# Altium integrated library TI Data Converters Digital to Analog Converter.IntLib: 1533 symbols (part 7 of 99)
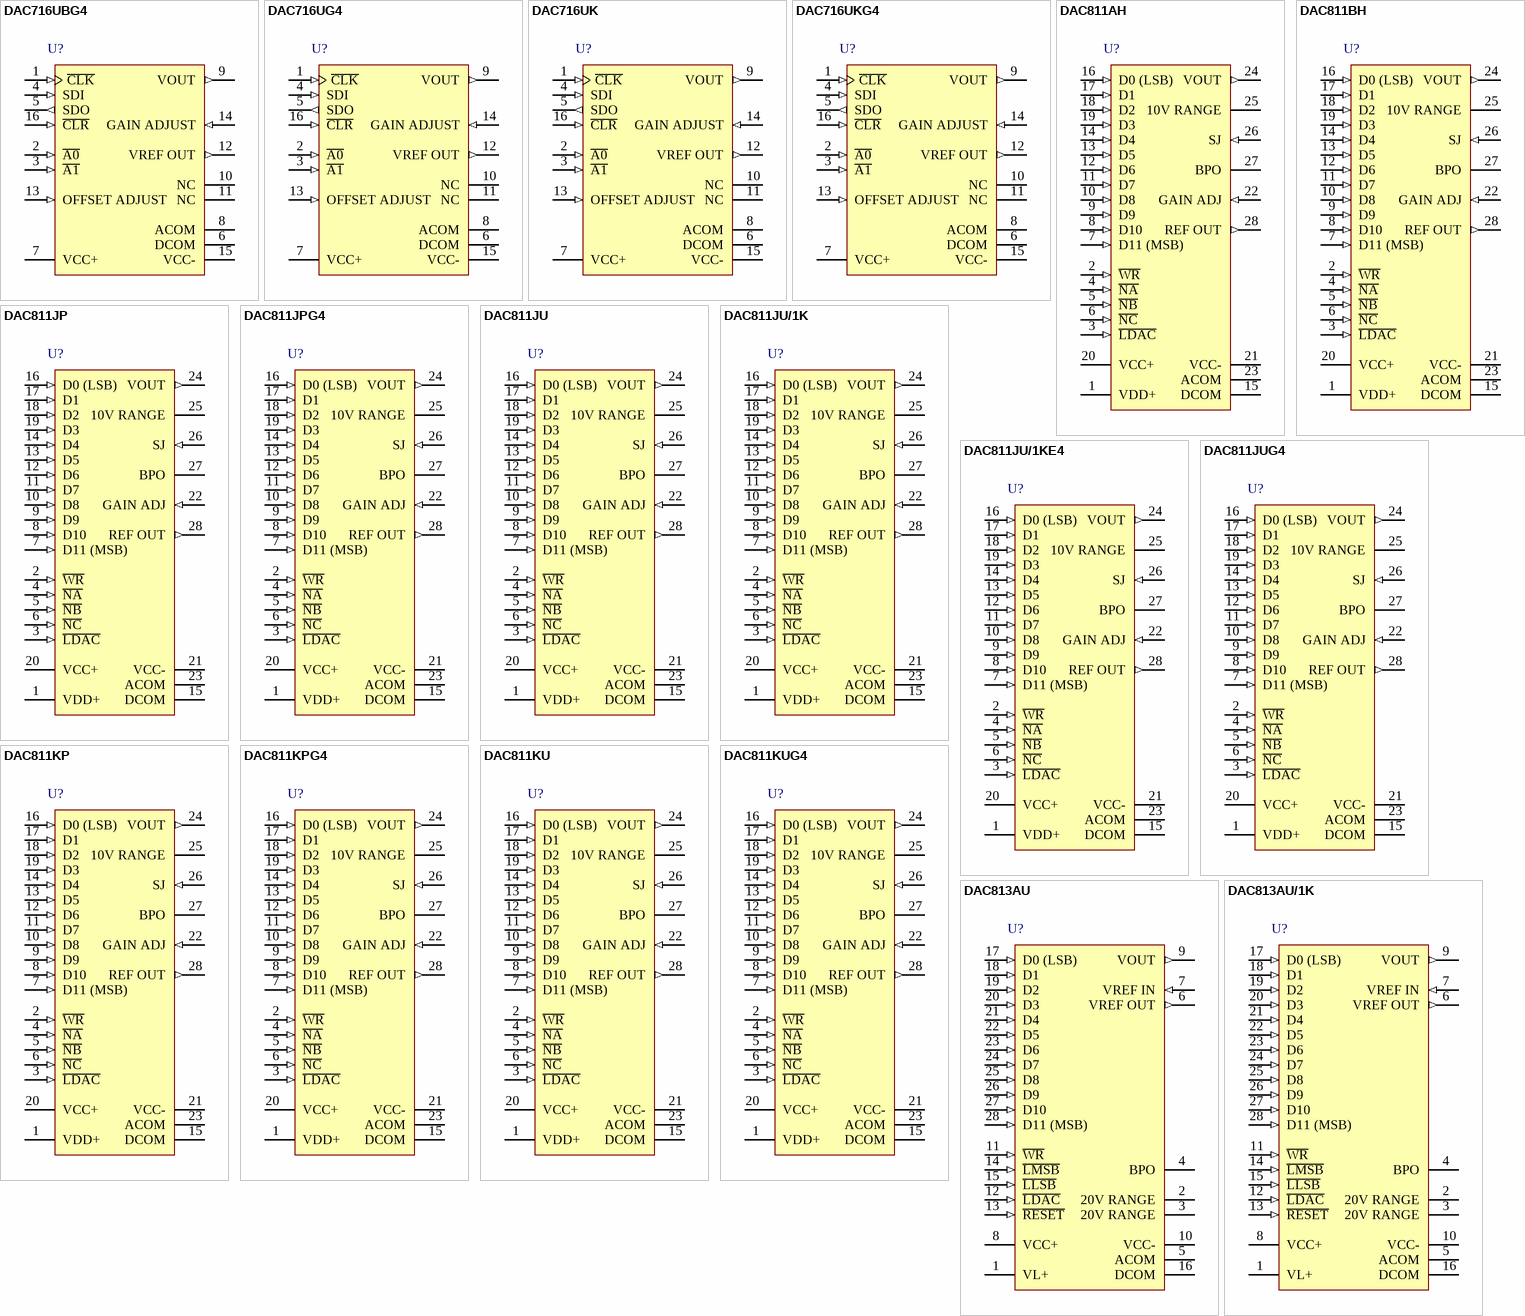
[diagram p79: symbols DAC716UBG4 to DAC813AU/1K]

## DAC716UG4
designator U?
16-Bit DAC with Serial Data Interface, -40 to 85 degC, 16-pin SOIC (DW16), Green (RoHS & no Sb/Br); Manufacturer: Texas Instruments; PartNumber: DAC716UG4; DAC Channels: 1; DNL(Max)(+/-LSB): 4; Interface: Serial SPI; Resolution(Bits): 16; Settling Time(us): 10; SubFamily: Precision DAC (=<10MSPS); DatasheetVersion: SBAS049; PackageVersion: 4040000-2/G, 01/2011; PackageReference: DW16; PackageDescription: 16-Pin Plastic Small Outline, Body 10.30 x 7.50 mm, Pitch 1.27 mm; Supplier 1: Digi-Key; Supplier Part Number 1: DAC716UG4-ND; Supplier 2: Mouser; Supplier Part Number 2: 595-DAC716UG4; Eco-Plan: Green (RoHS & no Sb/Br); INL(Max)(+/-LSB): 4; Mounting Technology: Surface Mount; Code_JEDEC: MS-013; ComponentLink1Description: Manufacturer URL; ComponentLink1URL: http://www.ti.com/; ComponentLink2Description: Datasheet; ComponentLink2URL: http://www.ti.com/general/docs/lit/getliterature.tsp?genericPartNumber=DAC716&fileType=pdf; ComponentLink3Description: Package Specification; ComponentLink3URL: http://www.ti.com/litv/pdf/msoi003g
footprint TI-DW16_N (SOIC, 16-Leads, Body 10.3x7.5mm, Pitch 1.27mm, IPC Medium Density)
footprint TI-DW16_L (SOIC, 16-Leads, Body 10.3x7.5mm, Pitch 1.27mm, IPC High Density)
footprint TI-DW16_M (SOIC, 16-Leads, Body 10.3x7.5mm, Pitch 1.27mm, IPC Low Density)
pins: 1 ~{CLK} (in) "Serial Data Clock", 2 ~{A0} (in) "Enable for Input Register (Active Low)", 3 ~{A1} (in) "Enable for D/A Latch (Active Low)", 4 SDI (in) "Serial Data Input", 5 SDO (out) "Serial Data Output", 6 DCOM (power) "Digital Supply Ground", 7 VCC+ (power) "Positive Power Supply", 8 ACOM (power) "Analog Supply Ground", 9 VOUT (out) "D/A Output", 10 NC "No Connection", 11 NC "No Connection", 12 VREF OUT (out) "Voltage Reference Output", 13 OFFSET ADJUST (in) "Offset Adjust", 14 GAIN ADJUST (in) "Gain Adjust", 15 VCC- (power) "Negative Power Supply", 16 ~{CLR} (in) "Clear"

## DAC716UK
designator U?
16-Bit DAC with Serial Data Interface, 0 to 70 degC, 16-pin SOIC (DW16), Green (RoHS & no Sb/Br); Manufacturer: Texas Instruments; PartNumber: DAC716UK; DAC Channels: 1; DNL(Max)(+/-LSB): 2; Interface: Serial SPI; Resolution(Bits): 16; Settling Time(us): 10; SubFamily: Precision DAC (=<10MSPS); DatasheetVersion: SBAS049; PackageVersion: 4040000-2/G, 01/2011; PackageReference: DW16; PackageDescription: 16-Pin Plastic Small Outline, Body 10.30 x 7.50 mm, Pitch 1.27 mm; Supplier 1: Digi-Key; Supplier Part Number 1: DAC716UK-ND; Supplier 2: Newark; Supplier Part Number 2: 74C9148; Supplier 3: Mouser; Supplier Part Number 3: 595-DAC716UK; Eco-Plan: Green (RoHS & no Sb/Br); INL(Max)(+/-LSB): 2; Mounting Technology: Surface Mount; Code_JEDEC: MS-013; ComponentLink1Description: Manufacturer URL; ComponentLink1URL: http://www.ti.com/; ComponentLink2Description: Datasheet; ComponentLink2URL: http://www.ti.com/general/docs/lit/getliterature.tsp?genericPartNumber=DAC716&fileType=pdf; ComponentLink3Description: Package Specification; ComponentLink3URL: http://www.ti.com/litv/pdf/msoi003g
footprint TI-DW16_N (SOIC, 16-Leads, Body 10.3x7.5mm, Pitch 1.27mm, IPC Medium Density)
footprint TI-DW16_L (SOIC, 16-Leads, Body 10.3x7.5mm, Pitch 1.27mm, IPC High Density)
footprint TI-DW16_M (SOIC, 16-Leads, Body 10.3x7.5mm, Pitch 1.27mm, IPC Low Density)
pins: 1 ~{CLK} (in) "Serial Data Clock", 2 ~{A0} (in) "Enable for Input Register (Active Low)", 3 ~{A1} (in) "Enable for D/A Latch (Active Low)", 4 SDI (in) "Serial Data Input", 5 SDO (out) "Serial Data Output", 6 DCOM (power) "Digital Supply Ground", 7 VCC+ (power) "Positive Power Supply", 8 ACOM (power) "Analog Supply Ground", 9 VOUT (out) "D/A Output", 10 NC "No Connection", 11 NC "No Connection", 12 VREF OUT (out) "Voltage Reference Output", 13 OFFSET ADJUST (in) "Offset Adjust", 14 GAIN ADJUST (in) "Gain Adjust", 15 VCC- (power) "Negative Power Supply", 16 ~{CLR} (in) "Clear"

## DAC716UKG4
designator U?
16-Bit DAC with Serial Data Interface, 0 to 70 degC, 16-pin SOIC (DW16), Green (RoHS & no Sb/Br); Manufacturer: Texas Instruments; PartNumber: DAC716UKG4; DAC Channels: 1; DNL(Max)(+/-LSB): 2; Interface: Serial SPI; Resolution(Bits): 16; Settling Time(us): 10; SubFamily: Precision DAC (=<10MSPS); DatasheetVersion: SBAS049; PackageVersion: 4040000-2/G, 01/2011; PackageReference: DW16; PackageDescription: 16-Pin Plastic Small Outline, Body 10.30 x 7.50 mm, Pitch 1.27 mm; Supplier 1: Digi-Key; Supplier Part Number 1: DAC716UKG4-ND; Supplier 2: Mouser; Supplier Part Number 2: 595-DAC716UKG4; Eco-Plan: Green (RoHS & no Sb/Br); INL(Max)(+/-LSB): 2; Mounting Technology: Surface Mount; Code_JEDEC: MS-013; ComponentLink1Description: Manufacturer URL; ComponentLink1URL: http://www.ti.com/; ComponentLink2Description: Datasheet; ComponentLink2URL: http://www.ti.com/general/docs/lit/getliterature.tsp?genericPartNumber=DAC716&fileType=pdf; ComponentLink3Description: Package Specification; ComponentLink3URL: http://www.ti.com/litv/pdf/msoi003g
footprint TI-DW16_N (SOIC, 16-Leads, Body 10.3x7.5mm, Pitch 1.27mm, IPC Medium Density)
footprint TI-DW16_L (SOIC, 16-Leads, Body 10.3x7.5mm, Pitch 1.27mm, IPC High Density)
footprint TI-DW16_M (SOIC, 16-Leads, Body 10.3x7.5mm, Pitch 1.27mm, IPC Low Density)
pins: 1 ~{CLK} (in) "Serial Data Clock", 2 ~{A0} (in) "Enable for Input Register (Active Low)", 3 ~{A1} (in) "Enable for D/A Latch (Active Low)", 4 SDI (in) "Serial Data Input", 5 SDO (out) "Serial Data Output", 6 DCOM (power) "Digital Supply Ground", 7 VCC+ (power) "Positive Power Supply", 8 ACOM (power) "Analog Supply Ground", 9 VOUT (out) "D/A Output", 10 NC "No Connection", 11 NC "No Connection", 12 VREF OUT (out) "Voltage Reference Output", 13 OFFSET ADJUST (in) "Offset Adjust", 14 GAIN ADJUST (in) "Gain Adjust", 15 VCC- (power) "Negative Power Supply", 16 ~{CLR} (in) "Clear"

## DAC811AH
designator U?
12-Bit DAC with Parallel Interface, -25 to 85 degC, 28-pin DIP (JD28), Green (RoHS & no Sb/Br); Manufacturer: Texas Instruments; PartNumber: DAC811AH; DAC Channels: 1; DNL(Max)(+/-LSB): 0.75; INL(Max)(+/-LSB): 0.5; Power Consumption(Typ)(mW): 625; Resolution(Bits): 12; Settling Time(us): 4; SubFamily: Precision DAC (=<10MSPS); DatasheetVersion: SBAS144; PackageVersion: 4040088/C, 05/1997; PackageReference: JD28; PackageDescription: 28-Pin Ceramic Side-Braze Dual-In-Line Package, Body 35.94 x 10.095 mm, Pitch 2.54 mm; Supplier 1: Digi-Key; Supplier Part Number 1: DAC811AH-ND; Supplier 2: Farnell; Supplier Part Number 2: 1564877; Supplier 3: Newark; Supplier Part Number 3: 72K7277; Supplier 4: Mouser; Supplier Part Number 4: 595-DAC811AH; Eco-Plan: Green (RoHS & no Sb/Br); Interface: Parallel; Mounting Technology: Through Hole; ComponentLink1Description: Manufacturer URL; ComponentLink1URL: http://www.ti.com/; ComponentLink2Description: Datasheet; ComponentLink2URL: http://www.ti.com/general/docs/lit/getliterature.tsp?genericPartNumber=DAC811&fileType=pdf; ComponentLink3Description: Package Specification; ComponentLink3URL: http://www.ti.com/lit/ml/mcdi003a/mcdi003a.pdf
footprint TI-JD28 (DIP, 28-Leads, Body 35.94x10.095mm, Pitch 2.54mm)
pins: 1 VDD+ (power) "Logic supply, +5V.", 2 ~{WR} (in) "Write, command signal to load latches. Logic low loads latches.", 3 ~{LDAC} (in) "Load D/A converter, enables W\R\ to load the D/A latch. Logic low enables.", 4 ~{NA} (in) "Nibble A, enables W\R\ to load input latch A (the most significant nibble). Logic low enables.", 5 ~{NB} (in) "Nibble B, enables W\R\ to load input latch B. Logic low enables.", 6 ~{NC} (in) "Nibble C, enables W\R\ to load input latch C (the least significant nibble). Logic low enables.", 7 D11 (MSB) (in) "Data bit 12, MSB, positive true.", 8 D10 (in) "Data bit 11.", 9 D9 (in) "Data bit 10.", 10 D8 (in) "Data bit 9.", 11 D7 (in) "Data bit 8.", 12 D6 (in) "Data bit 7.", 13 D5 (in) "Data bit 6.", 14 D4 (in) "Data bit 5.", 15 DCOM (power) "Digital common, VDD supply return.", 16 D0 (LSB) (in) "Data bit 1, LSB.", 17 D1 (in) "Data bit 2.", 18 D2 (in) "Data bit 3.", 19 D3 (in) "Data bit 4.", 20 VCC+ (power) "Analog supply input, +15V or +12V.", 21 VCC- (power) "Analog supply input, -15V or -12V.", 22 GAIN ADJ (in) "To externally adjust gain.", 23 ACOM (power) "Analog common, +/-VCC supply return.", 24 VOUT (out) "D/A converter voltage output.", 25 10V RANGE (power) "Connect to pin 24 for 10V range.", 26 SJ (in) "Summing junction of output amplifier.", 27 BPO "Bipolar offset. Connect to pin 26 for bipolar operation.", 28 REF OUT (out) "6.3V reference output."

## DAC811BH
designator U?
12-Bit DAC with Parallel Interface, -25 to 85 degC, 28-pin DIP (JD28), Green (RoHS & no Sb/Br); Manufacturer: Texas Instruments; PartNumber: DAC811BH; DAC Channels: 1; DNL(Max)(+/-LSB): 0.5; INL(Max)(+/-LSB): 0.25; Power Consumption(Typ)(mW): 625; Resolution(Bits): 12; Settling Time(us): 4; SubFamily: Precision DAC (=<10MSPS); DatasheetVersion: SBAS144; PackageVersion: 4040088/C, 05/1997; PackageReference: JD28; PackageDescription: 28-Pin Ceramic Side-Braze Dual-In-Line Package, Body 35.94 x 10.095 mm, Pitch 2.54 mm; Supplier 1: Digi-Key; Supplier Part Number 1: DAC811BH-ND; Supplier 2: Mouser; Supplier Part Number 2: 595-DAC811BH; Eco-Plan: Green (RoHS & no Sb/Br); Interface: Parallel; Mounting Technology: Through Hole; ComponentLink1Description: Manufacturer URL; ComponentLink1URL: http://www.ti.com/; ComponentLink2Description: Datasheet; ComponentLink2URL: http://www.ti.com/general/docs/lit/getliterature.tsp?genericPartNumber=DAC811&fileType=pdf; ComponentLink3Description: Package Specification; ComponentLink3URL: http://www.ti.com/lit/ml/mcdi003a/mcdi003a.pdf
footprint TI-JD28 (DIP, 28-Leads, Body 35.94x10.095mm, Pitch 2.54mm)
pins: 1 VDD+ (power) "Logic supply, +5V.", 2 ~{WR} (in) "Write, command signal to load latches. Logic low loads latches.", 3 ~{LDAC} (in) "Load D/A converter, enables W\R\ to load the D/A latch. Logic low enables.", 4 ~{NA} (in) "Nibble A, enables W\R\ to load input latch A (the most significant nibble). Logic low enables.", 5 ~{NB} (in) "Nibble B, enables W\R\ to load input latch B. Logic low enables.", 6 ~{NC} (in) "Nibble C, enables W\R\ to load input latch C (the least significant nibble). Logic low enables.", 7 D11 (MSB) (in) "Data bit 12, MSB, positive true.", 8 D10 (in) "Data bit 11.", 9 D9 (in) "Data bit 10.", 10 D8 (in) "Data bit 9.", 11 D7 (in) "Data bit 8.", 12 D6 (in) "Data bit 7.", 13 D5 (in) "Data bit 6.", 14 D4 (in) "Data bit 5.", 15 DCOM (power) "Digital common, VDD supply return.", 16 D0 (LSB) (in) "Data bit 1, LSB.", 17 D1 (in) "Data bit 2.", 18 D2 (in) "Data bit 3.", 19 D3 (in) "Data bit 4.", 20 VCC+ (power) "Analog supply input, +15V or +12V.", 21 VCC- (power) "Analog supply input, -15V or -12V.", 22 GAIN ADJ (in) "To externally adjust gain.", 23 ACOM (power) "Analog common, +/-VCC supply return.", 24 VOUT (out) "D/A converter voltage output.", 25 10V RANGE (power) "Connect to pin 24 for 10V range.", 26 SJ (in) "Summing junction of output amplifier.", 27 BPO "Bipolar offset. Connect to pin 26 for bipolar operation.", 28 REF OUT (out) "6.3V reference output."

## DAC811JP
designator U?
12-Bit DAC with Parallel Interface, 0 to 70 degC, 28-pin DIP (NTD28), Green (RoHS & no Sb/Br); Manufacturer: Texas Instruments; PartNumber: DAC811JP; DAC Channels: 1; DNL(Max)(+/-LSB): 0.75; INL(Max)(+/-LSB): 0.5; Power Consumption(Typ)(mW): 625; Resolution(Bits): 12; Settling Time(us): 4; SubFamily: Precision DAC (=<10MSPS); DatasheetVersion: SBAS144; PackageVersion: 4202496/A, 03/2001; PackageReference: NTD28; PackageDescription: 28-Pin Plastic Dual-In-Line, Body 37.4 x 13.525 mm, Pitch 2.54 mm; Supplier 1: Digi-Key; Supplier Part Number 1: 296-33262-5-ND; Supplier 2: Newark; Supplier Part Number 2: 14M8163; Supplier 3: Mouser; Supplier Part Number 3: 595-DAC811JP; Eco-Plan: Green (RoHS & no Sb/Br); Interface: Parallel; Mounting Technology: Through Hole; Code_JEDEC: MS-011-AB; ComponentLink1Description: Manufacturer URL; ComponentLink1URL: http://www.ti.com/; ComponentLink2Description: Datasheet; ComponentLink2URL: http://www.ti.com/general/docs/lit/getliterature.tsp?genericPartNumber=DAC811&fileType=pdf; ComponentLink3Description: Package Specification; ComponentLink3URL: http://www.ti.com/litv/pdf/mpdi056
footprint TI-NTD28 (DIP, 28-Leads, Body 37.4x13.525mm, Pitch 2.54mm)
pins: 1 VDD+ (power) "Logic supply, +5V.", 2 ~{WR} (in) "Write, command signal to load latches. Logic low loads latches.", 3 ~{LDAC} (in) "Load D/A converter, enables W\R\ to load the D/A latch. Logic low enables.", 4 ~{NA} (in) "Nibble A, enables W\R\ to load input latch A (the most significant nibble). Logic low enables.", 5 ~{NB} (in) "Nibble B, enables W\R\ to load input latch B. Logic low enables.", 6 ~{NC} (in) "Nibble C, enables W\R\ to load input latch C (the least significant nibble). Logic low enables.", 7 D11 (MSB) (in) "Data bit 12, MSB, positive true.", 8 D10 (in) "Data bit 11.", 9 D9 (in) "Data bit 10.", 10 D8 (in) "Data bit 9.", 11 D7 (in) "Data bit 8.", 12 D6 (in) "Data bit 7.", 13 D5 (in) "Data bit 6.", 14 D4 (in) "Data bit 5.", 15 DCOM (power) "Digital common, VDD supply return.", 16 D0 (LSB) (in) "Data bit 1, LSB.", 17 D1 (in) "Data bit 2.", 18 D2 (in) "Data bit 3.", 19 D3 (in) "Data bit 4.", 20 VCC+ (power) "Analog supply input, +15V or +12V.", 21 VCC- (power) "Analog supply input, -15V or -12V.", 22 GAIN ADJ (in) "To externally adjust gain.", 23 ACOM (power) "Analog common, +/-VCC supply return.", 24 VOUT (out) "D/A converter voltage output.", 25 10V RANGE (power) "Connect to pin 24 for 10V range.", 26 SJ (in) "Summing junction of output amplifier.", 27 BPO "Bipolar offset. Connect to pin 26 for bipolar operation.", 28 REF OUT (out) "6.3V reference output."

## DAC811JPG4
designator U?
12-Bit DAC with Parallel Interface, 0 to 70 degC, 28-pin DIP (NTD28), Green (RoHS & no Sb/Br); Manufacturer: Texas Instruments; PartNumber: DAC811JPG4; DAC Channels: 1; DNL(Max)(+/-LSB): 0.75; INL(Max)(+/-LSB): 0.5; Power Consumption(Typ)(mW): 625; Resolution(Bits): 12; Settling Time(us): 4; SubFamily: Precision DAC (=<10MSPS); DatasheetVersion: SBAS144; PackageVersion: 4202496/A, 03/2001; PackageReference: NTD28; PackageDescription: 28-Pin Plastic Dual-In-Line, Body 37.4 x 13.525 mm, Pitch 2.54 mm; Supplier 1: Digi-Key; Supplier Part Number 1: DAC811JPG4-ND; Supplier 2: Mouser; Supplier Part Number 2: 595-DAC811JPG4; Eco-Plan: Green (RoHS & no Sb/Br); Interface: Parallel; Mounting Technology: Through Hole; Code_JEDEC: MS-011-AB; ComponentLink1Description: Manufacturer URL; ComponentLink1URL: http://www.ti.com/; ComponentLink2Description: Datasheet; ComponentLink2URL: http://www.ti.com/general/docs/lit/getliterature.tsp?genericPartNumber=DAC811&fileType=pdf; ComponentLink3Description: Package Specification; ComponentLink3URL: http://www.ti.com/litv/pdf/mpdi056
footprint TI-NTD28 (DIP, 28-Leads, Body 37.4x13.525mm, Pitch 2.54mm)
pins: 1 VDD+ (power) "Logic supply, +5V.", 2 ~{WR} (in) "Write, command signal to load latches. Logic low loads latches.", 3 ~{LDAC} (in) "Load D/A converter, enables W\R\ to load the D/A latch. Logic low enables.", 4 ~{NA} (in) "Nibble A, enables W\R\ to load input latch A (the most significant nibble). Logic low enables.", 5 ~{NB} (in) "Nibble B, enables W\R\ to load input latch B. Logic low enables.", 6 ~{NC} (in) "Nibble C, enables W\R\ to load input latch C (the least significant nibble). Logic low enables.", 7 D11 (MSB) (in) "Data bit 12, MSB, positive true.", 8 D10 (in) "Data bit 11.", 9 D9 (in) "Data bit 10.", 10 D8 (in) "Data bit 9.", 11 D7 (in) "Data bit 8.", 12 D6 (in) "Data bit 7.", 13 D5 (in) "Data bit 6.", 14 D4 (in) "Data bit 5.", 15 DCOM (power) "Digital common, VDD supply return.", 16 D0 (LSB) (in) "Data bit 1, LSB.", 17 D1 (in) "Data bit 2.", 18 D2 (in) "Data bit 3.", 19 D3 (in) "Data bit 4.", 20 VCC+ (power) "Analog supply input, +15V or +12V.", 21 VCC- (power) "Analog supply input, -15V or -12V.", 22 GAIN ADJ (in) "To externally adjust gain.", 23 ACOM (power) "Analog common, +/-VCC supply return.", 24 VOUT (out) "D/A converter voltage output.", 25 10V RANGE (power) "Connect to pin 24 for 10V range.", 26 SJ (in) "Summing junction of output amplifier.", 27 BPO "Bipolar offset. Connect to pin 26 for bipolar operation.", 28 REF OUT (out) "6.3V reference output."

## DAC811JU
designator U?
12-Bit DAC with Parallel Interface, 0 to 70 degC, 28-pin SOIC (DW28), Green (RoHS & no Sb/Br); Manufacturer: Texas Instruments; PartNumber: DAC811JU; DAC Channels: 1; DNL(Max)(+/-LSB): 0.75; INL(Max)(+/-LSB): 0.5; Power Consumption(Typ)(mW): 625; Resolution(Bits): 12; Settling Time(us): 4; SubFamily: Precision DAC (=<10MSPS); DatasheetVersion: SBAS144; PackageVersion: 4040000-6/G, 01/2011; PackageReference: DW28; PackageDescription: 28-Pin Plastic Small Outline, Body 17.90 x 7.50 mm, Pitch 1.27 mm; Supplier 1: Digi-Key; Supplier Part Number 1: DAC811JU-ND; Supplier 2: Newark; Supplier Part Number 2: 35C1664; Supplier 3: Mouser; Supplier Part Number 3: 595-DAC811JU; Eco-Plan: Green (RoHS & no Sb/Br); Interface: Parallel; Mounting Technology: Surface Mount; Code_JEDEC: MS-013; ComponentLink1Description: Manufacturer URL; ComponentLink1URL: http://www.ti.com/; ComponentLink2Description: Datasheet; ComponentLink2URL: http://www.ti.com/general/docs/lit/getliterature.tsp?genericPartNumber=DAC811&fileType=pdf; ComponentLink3Description: Package Specification; ComponentLink3URL: http://www.ti.com/lit/ml/mpds175a/mpds175a.pdf
footprint TI-DW28_N (SOIC, 28-Leads, Body 17.9x7.5mm, Pitch 1.27mm, IPC Medium Density)
footprint TI-DW28_L (SOIC, 28-Leads, Body 17.9x7.5mm, Pitch 1.27mm, IPC High Density)
footprint TI-DW28_M (SOIC, 28-Leads, Body 17.9x7.5mm, Pitch 1.27mm, IPC Low Density)
pins: 1 VDD+ (power) "Logic supply, +5V.", 2 ~{WR} (in) "Write, command signal to load latches. Logic low loads latches.", 3 ~{LDAC} (in) "Load D/A converter, enables W\R\ to load the D/A latch. Logic low enables.", 4 ~{NA} (in) "Nibble A, enables W\R\ to load input latch A (the most significant nibble). Logic low enables.", 5 ~{NB} (in) "Nibble B, enables W\R\ to load input latch B. Logic low enables.", 6 ~{NC} (in) "Nibble C, enables W\R\ to load input latch C (the least significant nibble). Logic low enables.", 7 D11 (MSB) (in) "Data bit 12, MSB, positive true.", 8 D10 (in) "Data bit 11.", 9 D9 (in) "Data bit 10.", 10 D8 (in) "Data bit 9.", 11 D7 (in) "Data bit 8.", 12 D6 (in) "Data bit 7.", 13 D5 (in) "Data bit 6.", 14 D4 (in) "Data bit 5.", 15 DCOM (power) "Digital common, VDD supply return.", 16 D0 (LSB) (in) "Data bit 1, LSB.", 17 D1 (in) "Data bit 2.", 18 D2 (in) "Data bit 3.", 19 D3 (in) "Data bit 4.", 20 VCC+ (power) "Analog supply input, +15V or +12V.", 21 VCC- (power) "Analog supply input, -15V or -12V.", 22 GAIN ADJ (in) "To externally adjust gain.", 23 ACOM (power) "Analog common, +/-VCC supply return.", 24 VOUT (out) "D/A converter voltage output.", 25 10V RANGE (power) "Connect to pin 24 for 10V range.", 26 SJ (in) "Summing junction of output amplifier.", 27 BPO "Bipolar offset. Connect to pin 26 for bipolar operation.", 28 REF OUT (out) "6.3V reference output."

## DAC811JU/1K
designator U?
12-Bit DAC with Parallel Interface, 0 to 70 degC, 28-pin SOIC (DW28), Green (RoHS & no Sb/Br); Manufacturer: Texas Instruments; PartNumber: DAC811JU/1K; DAC Channels: 1; DNL(Max)(+/-LSB): 0.75; INL(Max)(+/-LSB): 0.5; Power Consumption(Typ)(mW): 625; Resolution(Bits): 12; Settling Time(us): 4; SubFamily: Precision DAC (=<10MSPS); DatasheetVersion: SBAS144; PackageVersion: 4040000-6/G, 01/2011; PackageReference: DW28; PackageDescription: 28-Pin Plastic Small Outline, Body 17.90 x 7.50 mm, Pitch 1.27 mm; Supplier 1: Digi-Key; Supplier Part Number 1: DAC811JU/1K-ND; Supplier 2: Mouser; Supplier Part Number 2: 595-DAC811JU/1K; Eco-Plan: Green (RoHS & no Sb/Br); Interface: Parallel; Mounting Technology: Surface Mount; Code_JEDEC: MS-013; ComponentLink1Description: Manufacturer URL; ComponentLink1URL: http://www.ti.com/; ComponentLink2Description: Datasheet; ComponentLink2URL: http://www.ti.com/general/docs/lit/getliterature.tsp?genericPartNumber=DAC811&fileType=pdf; ComponentLink3Description: Package Specification; ComponentLink3URL: http://www.ti.com/lit/ml/mpds175a/mpds175a.pdf
footprint TI-DW28_N (SOIC, 28-Leads, Body 17.9x7.5mm, Pitch 1.27mm, IPC Medium Density)
footprint TI-DW28_L (SOIC, 28-Leads, Body 17.9x7.5mm, Pitch 1.27mm, IPC High Density)
footprint TI-DW28_M (SOIC, 28-Leads, Body 17.9x7.5mm, Pitch 1.27mm, IPC Low Density)
pins: 1 VDD+ (power) "Logic supply, +5V.", 2 ~{WR} (in) "Write, command signal to load latches. Logic low loads latches.", 3 ~{LDAC} (in) "Load D/A converter, enables W\R\ to load the D/A latch. Logic low enables.", 4 ~{NA} (in) "Nibble A, enables W\R\ to load input latch A (the most significant nibble). Logic low enables.", 5 ~{NB} (in) "Nibble B, enables W\R\ to load input latch B. Logic low enables.", 6 ~{NC} (in) "Nibble C, enables W\R\ to load input latch C (the least significant nibble). Logic low enables.", 7 D11 (MSB) (in) "Data bit 12, MSB, positive true.", 8 D10 (in) "Data bit 11.", 9 D9 (in) "Data bit 10.", 10 D8 (in) "Data bit 9.", 11 D7 (in) "Data bit 8.", 12 D6 (in) "Data bit 7.", 13 D5 (in) "Data bit 6.", 14 D4 (in) "Data bit 5.", 15 DCOM (power) "Digital common, VDD supply return.", 16 D0 (LSB) (in) "Data bit 1, LSB.", 17 D1 (in) "Data bit 2.", 18 D2 (in) "Data bit 3.", 19 D3 (in) "Data bit 4.", 20 VCC+ (power) "Analog supply input, +15V or +12V.", 21 VCC- (power) "Analog supply input, -15V or -12V.", 22 GAIN ADJ (in) "To externally adjust gain.", 23 ACOM (power) "Analog common, +/-VCC supply return.", 24 VOUT (out) "D/A converter voltage output.", 25 10V RANGE (power) "Connect to pin 24 for 10V range.", 26 SJ (in) "Summing junction of output amplifier.", 27 BPO "Bipolar offset. Connect to pin 26 for bipolar operation.", 28 REF OUT (out) "6.3V reference output."

## DAC811JU/1KE4
designator U?
12-Bit DAC with Parallel Interface, 0 to 70 degC, 28-pin SOIC (DW28), Green (RoHS & no Sb/Br); Manufacturer: Texas Instruments; PartNumber: DAC811JU/1KE4; DAC Channels: 1; DNL(Max)(+/-LSB): 0.75; INL(Max)(+/-LSB): 0.5; Power Consumption(Typ)(mW): 625; Resolution(Bits): 12; Settling Time(us): 4; SubFamily: Precision DAC (=<10MSPS); DatasheetVersion: SBAS144; PackageVersion: 4040000-6/G, 01/2011; PackageReference: DW28; PackageDescription: 28-Pin Plastic Small Outline, Body 17.90 x 7.50 mm, Pitch 1.27 mm; Supplier 1: Digi-Key; Supplier Part Number 1: DAC811JU/1KE4-ND; Supplier 2: Mouser; Supplier Part Number 2: 595-DAC811JU/1KE4; Eco-Plan: Green (RoHS & no Sb/Br); Interface: Parallel; Mounting Technology: Surface Mount; Code_JEDEC: MS-013; ComponentLink1Description: Manufacturer URL; ComponentLink1URL: http://www.ti.com/; ComponentLink2Description: Datasheet; ComponentLink2URL: http://www.ti.com/general/docs/lit/getliterature.tsp?genericPartNumber=DAC811&fileType=pdf; ComponentLink3Description: Package Specification; ComponentLink3URL: http://www.ti.com/lit/ml/mpds175a/mpds175a.pdf
footprint TI-DW28_N (SOIC, 28-Leads, Body 17.9x7.5mm, Pitch 1.27mm, IPC Medium Density)
footprint TI-DW28_L (SOIC, 28-Leads, Body 17.9x7.5mm, Pitch 1.27mm, IPC High Density)
footprint TI-DW28_M (SOIC, 28-Leads, Body 17.9x7.5mm, Pitch 1.27mm, IPC Low Density)
pins: 1 VDD+ (power) "Logic supply, +5V.", 2 ~{WR} (in) "Write, command signal to load latches. Logic low loads latches.", 3 ~{LDAC} (in) "Load D/A converter, enables W\R\ to load the D/A latch. Logic low enables.", 4 ~{NA} (in) "Nibble A, enables W\R\ to load input latch A (the most significant nibble). Logic low enables.", 5 ~{NB} (in) "Nibble B, enables W\R\ to load input latch B. Logic low enables.", 6 ~{NC} (in) "Nibble C, enables W\R\ to load input latch C (the least significant nibble). Logic low enables.", 7 D11 (MSB) (in) "Data bit 12, MSB, positive true.", 8 D10 (in) "Data bit 11.", 9 D9 (in) "Data bit 10.", 10 D8 (in) "Data bit 9.", 11 D7 (in) "Data bit 8.", 12 D6 (in) "Data bit 7.", 13 D5 (in) "Data bit 6.", 14 D4 (in) "Data bit 5.", 15 DCOM (power) "Digital common, VDD supply return.", 16 D0 (LSB) (in) "Data bit 1, LSB.", 17 D1 (in) "Data bit 2.", 18 D2 (in) "Data bit 3.", 19 D3 (in) "Data bit 4.", 20 VCC+ (power) "Analog supply input, +15V or +12V.", 21 VCC- (power) "Analog supply input, -15V or -12V.", 22 GAIN ADJ (in) "To externally adjust gain.", 23 ACOM (power) "Analog common, +/-VCC supply return.", 24 VOUT (out) "D/A converter voltage output.", 25 10V RANGE (power) "Connect to pin 24 for 10V range.", 26 SJ (in) "Summing junction of output amplifier.", 27 BPO "Bipolar offset. Connect to pin 26 for bipolar operation.", 28 REF OUT (out) "6.3V reference output."

## DAC811JUG4
designator U?
12-Bit DAC with Parallel Interface, 0 to 70 degC, 28-pin SOIC (DW28), Green (RoHS & no Sb/Br); Manufacturer: Texas Instruments; PartNumber: DAC811JUG4; DAC Channels: 1; DNL(Max)(+/-LSB): 0.75; INL(Max)(+/-LSB): 0.5; Power Consumption(Typ)(mW): 625; Resolution(Bits): 12; Settling Time(us): 4; SubFamily: Precision DAC (=<10MSPS); DatasheetVersion: SBAS144; PackageVersion: 4040000-6/G, 01/2011; PackageReference: DW28; PackageDescription: 28-Pin Plastic Small Outline, Body 17.90 x 7.50 mm, Pitch 1.27 mm; Supplier 1: Digi-Key; Supplier Part Number 1: DAC811JUG4-ND; Supplier 2: Mouser; Supplier Part Number 2: 595-DAC811JUG4; Eco-Plan: Green (RoHS & no Sb/Br); Interface: Parallel; Mounting Technology: Surface Mount; Code_JEDEC: MS-013; ComponentLink1Description: Manufacturer URL; ComponentLink1URL: http://www.ti.com/; ComponentLink2Description: Datasheet; ComponentLink2URL: http://www.ti.com/general/docs/lit/getliterature.tsp?genericPartNumber=DAC811&fileType=pdf; ComponentLink3Description: Package Specification; ComponentLink3URL: http://www.ti.com/lit/ml/mpds175a/mpds175a.pdf
footprint TI-DW28_N (SOIC, 28-Leads, Body 17.9x7.5mm, Pitch 1.27mm, IPC Medium Density)
footprint TI-DW28_L (SOIC, 28-Leads, Body 17.9x7.5mm, Pitch 1.27mm, IPC High Density)
footprint TI-DW28_M (SOIC, 28-Leads, Body 17.9x7.5mm, Pitch 1.27mm, IPC Low Density)
pins: 1 VDD+ (power) "Logic supply, +5V.", 2 ~{WR} (in) "Write, command signal to load latches. Logic low loads latches.", 3 ~{LDAC} (in) "Load D/A converter, enables W\R\ to load the D/A latch. Logic low enables.", 4 ~{NA} (in) "Nibble A, enables W\R\ to load input latch A (the most significant nibble). Logic low enables.", 5 ~{NB} (in) "Nibble B, enables W\R\ to load input latch B. Logic low enables.", 6 ~{NC} (in) "Nibble C, enables W\R\ to load input latch C (the least significant nibble). Logic low enables.", 7 D11 (MSB) (in) "Data bit 12, MSB, positive true.", 8 D10 (in) "Data bit 11.", 9 D9 (in) "Data bit 10.", 10 D8 (in) "Data bit 9.", 11 D7 (in) "Data bit 8.", 12 D6 (in) "Data bit 7.", 13 D5 (in) "Data bit 6.", 14 D4 (in) "Data bit 5.", 15 DCOM (power) "Digital common, VDD supply return.", 16 D0 (LSB) (in) "Data bit 1, LSB.", 17 D1 (in) "Data bit 2.", 18 D2 (in) "Data bit 3.", 19 D3 (in) "Data bit 4.", 20 VCC+ (power) "Analog supply input, +15V or +12V.", 21 VCC- (power) "Analog supply input, -15V or -12V.", 22 GAIN ADJ (in) "To externally adjust gain.", 23 ACOM (power) "Analog common, +/-VCC supply return.", 24 VOUT (out) "D/A converter voltage output.", 25 10V RANGE (power) "Connect to pin 24 for 10V range.", 26 SJ (in) "Summing junction of output amplifier.", 27 BPO "Bipolar offset. Connect to pin 26 for bipolar operation.", 28 REF OUT (out) "6.3V reference output."

## DAC811KP
designator U?
12-Bit DAC with Parallel Interface, 0 to 70 degC, 28-pin DIP (NTD28), Green (RoHS & no Sb/Br); Manufacturer: Texas Instruments; PartNumber: DAC811KP; DAC Channels: 1; DNL(Max)(+/-LSB): 0.5; INL(Max)(+/-LSB): 0.25; Power Consumption(Typ)(mW): 625; Resolution(Bits): 12; Settling Time(us): 4; SubFamily: Precision DAC (=<10MSPS); DatasheetVersion: SBAS144; PackageVersion: 4202496/A, 03/2001; PackageReference: NTD28; PackageDescription: 28-Pin Plastic Dual-In-Line, Body 37.4 x 13.525 mm, Pitch 2.54 mm; Supplier 1: Digi-Key; Supplier Part Number 1: 296-33263-5-ND; Supplier 2: Farnell; Supplier Part Number 2: 1460248; Supplier 3: Mouser; Supplier Part Number 3: 595-DAC811KP; Eco-Plan: Green (RoHS & no Sb/Br); Interface: Parallel; Mounting Technology: Through Hole; Code_JEDEC: MS-011-AB; ComponentLink1Description: Manufacturer URL; ComponentLink1URL: http://www.ti.com/; ComponentLink2Description: Datasheet; ComponentLink2URL: http://www.ti.com/general/docs/lit/getliterature.tsp?genericPartNumber=DAC811&fileType=pdf; ComponentLink3Description: Package Specification; ComponentLink3URL: http://www.ti.com/litv/pdf/mpdi056
footprint TI-NTD28 (DIP, 28-Leads, Body 37.4x13.525mm, Pitch 2.54mm)
pins: 1 VDD+ (power) "Logic supply, +5V.", 2 ~{WR} (in) "Write, command signal to load latches. Logic low loads latches.", 3 ~{LDAC} (in) "Load D/A converter, enables W\R\ to load the D/A latch. Logic low enables.", 4 ~{NA} (in) "Nibble A, enables W\R\ to load input latch A (the most significant nibble). Logic low enables.", 5 ~{NB} (in) "Nibble B, enables W\R\ to load input latch B. Logic low enables.", 6 ~{NC} (in) "Nibble C, enables W\R\ to load input latch C (the least significant nibble). Logic low enables.", 7 D11 (MSB) (in) "Data bit 12, MSB, positive true.", 8 D10 (in) "Data bit 11.", 9 D9 (in) "Data bit 10.", 10 D8 (in) "Data bit 9.", 11 D7 (in) "Data bit 8.", 12 D6 (in) "Data bit 7.", 13 D5 (in) "Data bit 6.", 14 D4 (in) "Data bit 5.", 15 DCOM (power) "Digital common, VDD supply return.", 16 D0 (LSB) (in) "Data bit 1, LSB.", 17 D1 (in) "Data bit 2.", 18 D2 (in) "Data bit 3.", 19 D3 (in) "Data bit 4.", 20 VCC+ (power) "Analog supply input, +15V or +12V.", 21 VCC- (power) "Analog supply input, -15V or -12V.", 22 GAIN ADJ (in) "To externally adjust gain.", 23 ACOM (power) "Analog common, +/-VCC supply return.", 24 VOUT (out) "D/A converter voltage output.", 25 10V RANGE (power) "Connect to pin 24 for 10V range.", 26 SJ (in) "Summing junction of output amplifier.", 27 BPO "Bipolar offset. Connect to pin 26 for bipolar operation.", 28 REF OUT (out) "6.3V reference output."

## DAC811KPG4
designator U?
12-Bit DAC with Parallel Interface, 0 to 70 degC, 28-pin DIP (NTD28), Green (RoHS & no Sb/Br); Manufacturer: Texas Instruments; PartNumber: DAC811KPG4; DAC Channels: 1; DNL(Max)(+/-LSB): 0.5; INL(Max)(+/-LSB): 0.25; Power Consumption(Typ)(mW): 625; Resolution(Bits): 12; Settling Time(us): 4; SubFamily: Precision DAC (=<10MSPS); DatasheetVersion: SBAS144; PackageVersion: 4202496/A, 03/2001; PackageReference: NTD28; PackageDescription: 28-Pin Plastic Dual-In-Line, Body 37.4 x 13.525 mm, Pitch 2.54 mm; Supplier 1: Digi-Key; Supplier Part Number 1: DAC811KPG4-ND; Supplier 2: Mouser; Supplier Part Number 2: 595-DAC811KPG4; Eco-Plan: Green (RoHS & no Sb/Br); Interface: Parallel; Mounting Technology: Through Hole; Code_JEDEC: MS-011-AB; ComponentLink1Description: Manufacturer URL; ComponentLink1URL: http://www.ti.com/; ComponentLink2Description: Datasheet; ComponentLink2URL: http://www.ti.com/general/docs/lit/getliterature.tsp?genericPartNumber=DAC811&fileType=pdf; ComponentLink3Description: Package Specification; ComponentLink3URL: http://www.ti.com/litv/pdf/mpdi056
footprint TI-NTD28 (DIP, 28-Leads, Body 37.4x13.525mm, Pitch 2.54mm)
pins: 1 VDD+ (power) "Logic supply, +5V.", 2 ~{WR} (in) "Write, command signal to load latches. Logic low loads latches.", 3 ~{LDAC} (in) "Load D/A converter, enables W\R\ to load the D/A latch. Logic low enables.", 4 ~{NA} (in) "Nibble A, enables W\R\ to load input latch A (the most significant nibble). Logic low enables.", 5 ~{NB} (in) "Nibble B, enables W\R\ to load input latch B. Logic low enables.", 6 ~{NC} (in) "Nibble C, enables W\R\ to load input latch C (the least significant nibble). Logic low enables.", 7 D11 (MSB) (in) "Data bit 12, MSB, positive true.", 8 D10 (in) "Data bit 11.", 9 D9 (in) "Data bit 10.", 10 D8 (in) "Data bit 9.", 11 D7 (in) "Data bit 8.", 12 D6 (in) "Data bit 7.", 13 D5 (in) "Data bit 6.", 14 D4 (in) "Data bit 5.", 15 DCOM (power) "Digital common, VDD supply return.", 16 D0 (LSB) (in) "Data bit 1, LSB.", 17 D1 (in) "Data bit 2.", 18 D2 (in) "Data bit 3.", 19 D3 (in) "Data bit 4.", 20 VCC+ (power) "Analog supply input, +15V or +12V.", 21 VCC- (power) "Analog supply input, -15V or -12V.", 22 GAIN ADJ (in) "To externally adjust gain.", 23 ACOM (power) "Analog common, +/-VCC supply return.", 24 VOUT (out) "D/A converter voltage output.", 25 10V RANGE (power) "Connect to pin 24 for 10V range.", 26 SJ (in) "Summing junction of output amplifier.", 27 BPO "Bipolar offset. Connect to pin 26 for bipolar operation.", 28 REF OUT (out) "6.3V reference output."

## DAC811KU
designator U?
12-Bit DAC with Parallel Interface, 0 to 70 degC, 28-pin SOIC (DW28), Green (RoHS & no Sb/Br); Manufacturer: Texas Instruments; PartNumber: DAC811KU; DAC Channels: 1; DNL(Max)(+/-LSB): 0.5; INL(Max)(+/-LSB): 0.25; Power Consumption(Typ)(mW): 625; Resolution(Bits): 12; Settling Time(us): 4; SubFamily: Precision DAC (=<10MSPS); DatasheetVersion: SBAS144; PackageVersion: 4040000-6/G, 01/2011; PackageReference: DW28; PackageDescription: 28-Pin Plastic Small Outline, Body 17.90 x 7.50 mm, Pitch 1.27 mm; Supplier 1: Digi-Key; Supplier Part Number 1: 296-33264-5-ND; Supplier 2: Newark; Supplier Part Number 2: 35C1665; Supplier 3: Mouser; Supplier Part Number 3: 595-DAC811KU; Eco-Plan: Green (RoHS & no Sb/Br); Interface: Parallel; Mounting Technology: Surface Mount; Code_JEDEC: MS-013; ComponentLink1Description: Manufacturer URL; ComponentLink1URL: http://www.ti.com/; ComponentLink2Description: Datasheet; ComponentLink2URL: http://www.ti.com/general/docs/lit/getliterature.tsp?genericPartNumber=DAC811&fileType=pdf; ComponentLink3Description: Package Specification; ComponentLink3URL: http://www.ti.com/lit/ml/mpds175a/mpds175a.pdf
footprint TI-DW28_N (SOIC, 28-Leads, Body 17.9x7.5mm, Pitch 1.27mm, IPC Medium Density)
footprint TI-DW28_L (SOIC, 28-Leads, Body 17.9x7.5mm, Pitch 1.27mm, IPC High Density)
footprint TI-DW28_M (SOIC, 28-Leads, Body 17.9x7.5mm, Pitch 1.27mm, IPC Low Density)
pins: 1 VDD+ (power) "Logic supply, +5V.", 2 ~{WR} (in) "Write, command signal to load latches. Logic low loads latches.", 3 ~{LDAC} (in) "Load D/A converter, enables W\R\ to load the D/A latch. Logic low enables.", 4 ~{NA} (in) "Nibble A, enables W\R\ to load input latch A (the most significant nibble). Logic low enables.", 5 ~{NB} (in) "Nibble B, enables W\R\ to load input latch B. Logic low enables.", 6 ~{NC} (in) "Nibble C, enables W\R\ to load input latch C (the least significant nibble). Logic low enables.", 7 D11 (MSB) (in) "Data bit 12, MSB, positive true.", 8 D10 (in) "Data bit 11.", 9 D9 (in) "Data bit 10.", 10 D8 (in) "Data bit 9.", 11 D7 (in) "Data bit 8.", 12 D6 (in) "Data bit 7.", 13 D5 (in) "Data bit 6.", 14 D4 (in) "Data bit 5.", 15 DCOM (power) "Digital common, VDD supply return.", 16 D0 (LSB) (in) "Data bit 1, LSB.", 17 D1 (in) "Data bit 2.", 18 D2 (in) "Data bit 3.", 19 D3 (in) "Data bit 4.", 20 VCC+ (power) "Analog supply input, +15V or +12V.", 21 VCC- (power) "Analog supply input, -15V or -12V.", 22 GAIN ADJ (in) "To externally adjust gain.", 23 ACOM (power) "Analog common, +/-VCC supply return.", 24 VOUT (out) "D/A converter voltage output.", 25 10V RANGE (power) "Connect to pin 24 for 10V range.", 26 SJ (in) "Summing junction of output amplifier.", 27 BPO "Bipolar offset. Connect to pin 26 for bipolar operation.", 28 REF OUT (out) "6.3V reference output."

## DAC811KUG4
designator U?
12-Bit DAC with Parallel Interface, 0 to 70 degC, 28-pin SOIC (DW28), Green (RoHS & no Sb/Br); Manufacturer: Texas Instruments; PartNumber: DAC811KUG4; DAC Channels: 1; DNL(Max)(+/-LSB): 0.5; INL(Max)(+/-LSB): 0.25; Power Consumption(Typ)(mW): 625; Resolution(Bits): 12; Settling Time(us): 4; SubFamily: Precision DAC (=<10MSPS); DatasheetVersion: SBAS144; PackageVersion: 4040000-6/G, 01/2011; PackageReference: DW28; PackageDescription: 28-Pin Plastic Small Outline, Body 17.90 x 7.50 mm, Pitch 1.27 mm; Supplier 1: Digi-Key; Supplier Part Number 1: DAC811KUG4-ND; Supplier 2: Newark; Supplier Part Number 2: 34P3670; Supplier 3: Mouser; Supplier Part Number 3: 595-DAC811KUG4; Eco-Plan: Green (RoHS & no Sb/Br); Interface: Parallel; Mounting Technology: Surface Mount; Code_JEDEC: MS-013; ComponentLink1Description: Manufacturer URL; ComponentLink1URL: http://www.ti.com/; ComponentLink2Description: Datasheet; ComponentLink2URL: http://www.ti.com/general/docs/lit/getliterature.tsp?genericPartNumber=DAC811&fileType=pdf; ComponentLink3Description: Package Specification; ComponentLink3URL: http://www.ti.com/lit/ml/mpds175a/mpds175a.pdf
footprint TI-DW28_N (SOIC, 28-Leads, Body 17.9x7.5mm, Pitch 1.27mm, IPC Medium Density)
footprint TI-DW28_L (SOIC, 28-Leads, Body 17.9x7.5mm, Pitch 1.27mm, IPC High Density)
footprint TI-DW28_M (SOIC, 28-Leads, Body 17.9x7.5mm, Pitch 1.27mm, IPC Low Density)
pins: 1 VDD+ (power) "Logic supply, +5V.", 2 ~{WR} (in) "Write, command signal to load latches. Logic low loads latches.", 3 ~{LDAC} (in) "Load D/A converter, enables W\R\ to load the D/A latch. Logic low enables.", 4 ~{NA} (in) "Nibble A, enables W\R\ to load input latch A (the most significant nibble). Logic low enables.", 5 ~{NB} (in) "Nibble B, enables W\R\ to load input latch B. Logic low enables.", 6 ~{NC} (in) "Nibble C, enables W\R\ to load input latch C (the least significant nibble). Logic low enables.", 7 D11 (MSB) (in) "Data bit 12, MSB, positive true.", 8 D10 (in) "Data bit 11.", 9 D9 (in) "Data bit 10.", 10 D8 (in) "Data bit 9.", 11 D7 (in) "Data bit 8.", 12 D6 (in) "Data bit 7.", 13 D5 (in) "Data bit 6.", 14 D4 (in) "Data bit 5.", 15 DCOM (power) "Digital common, VDD supply return.", 16 D0 (LSB) (in) "Data bit 1, LSB.", 17 D1 (in) "Data bit 2.", 18 D2 (in) "Data bit 3.", 19 D3 (in) "Data bit 4.", 20 VCC+ (power) "Analog supply input, +15V or +12V.", 21 VCC- (power) "Analog supply input, -15V or -12V.", 22 GAIN ADJ (in) "To externally adjust gain.", 23 ACOM (power) "Analog common, +/-VCC supply return.", 24 VOUT (out) "D/A converter voltage output.", 25 10V RANGE (power) "Connect to pin 24 for 10V range.", 26 SJ (in) "Summing junction of output amplifier.", 27 BPO "Bipolar offset. Connect to pin 26 for bipolar operation.", 28 REF OUT (out) "6.3V reference output."

## DAC813AU
designator U?
Microprocessor-Compatible 12-Bit D/A Converter, -40 to 85 degC, 28-pin SOIC (DW28), Green (RoHS & no Sb/Br); Manufacturer: Texas Instruments; PartNumber: DAC813AU; DAC Channels: 1; DNL(Max)(+/-LSB): 0.75; INL(Max)(+/-LSB): 0.5; Interface: Parallel; Power Consumption(Typ)(mW): 270; Resolution(Bits): 12; Settling Time(us): 4; SubFamily: Precision DAC (=<10MSPS); DatasheetVersion: SBAS004; PackageVersion: 4040000-6/G, 01/2011; PackageReference: DW28; PackageDescription: 28-Pin Plastic Small Outline, Body 17.90 x 7.50 mm, Pitch 1.27 mm; Supplier 1: Digi-Key; Supplier Part Number 1: DAC813AU-ND; Supplier 2: Newark; Supplier Part Number 2: 74C9290; Supplier 3: Mouser; Supplier Part Number 3: 595-DAC813AU; Eco-Plan: Green (RoHS & no Sb/Br); Mounting Technology: Surface Mount; Code_JEDEC: MS-013; ComponentLink1Description: Manufacturer URL; ComponentLink1URL: http://www.ti.com/; ComponentLink2Description: Datasheet; ComponentLink2URL: http://www.ti.com/general/docs/lit/getliterature.tsp?genericPartNumber=DAC813&fileType=pdf; ComponentLink3Description: Package Specification; ComponentLink3URL: http://www.ti.com/lit/ml/mpds175a/mpds175a.pdf
footprint TI-DW28_N (SOIC, 28-Leads, Body 17.9x7.5mm, Pitch 1.27mm, IPC Medium Density)
footprint TI-DW28_L (SOIC, 28-Leads, Body 17.9x7.5mm, Pitch 1.27mm, IPC High Density)
footprint TI-DW28_M (SOIC, 28-Leads, Body 17.9x7.5mm, Pitch 1.27mm, IPC Low Density)
pins: 1 VL+ (power) "Positive supply pin for logic circuits. Connect to +VCC.", 2 20V RANGE "Connect Pin 2 or Pin 3 to Pin 9 (VOUT) for a 20V FSR. Connect both to Pin 9 for a 10V FSR.", 3 20V RANGE "Connect Pin 2 or Pin 3 to Pin 9 (VOUT) for a 20V FSR. Connect both to Pin 9 for a 10V FSR.", 4 BPO "Bipolar offset. Connect to Pin 6 (VREF OUT) through 100 Ohm resistor or 200 Ohm potentiometer for bipolar operation.", 5 ACOM (power) "Analog common, +/-VCC supply return.", 6 VREF OUT (out) "+10V reference output referred to ACOM.", 7 VREF IN (in) "Connected to VREF OUT through a 1kOhm gain adjustment potentiometer or a 500 Ohm resistor.", 8 VCC+ (power) "Analog supply input, nominally +12V to +15V referred to ACOM.", 9 VOUT (out) "D/A converter voltage output.", 10 VCC- (power) "Analog supply input, nominally -12V or -15V referred to ACOM.", 11 ~{WR} (in) "Master enable for L\D\A\C\, L\L\S\B\, and L\M\S\B\. Must be low for data transfer to any latch.", 12 ~{LDAC} (in) "Load DAC. Must be low with W\R\ for data transfer to the D/A latch and simultaneous update of the D/A converter.", 13 ~{RESET} (in) "When low, resets the D/A latch such that a Bipolar Zero output is produced. This control overrides all other data input operations.", 14 ~{LMSB} (in) "Enable for 4-bit input latch of D8-D11 data inputs. NOTE: This logic path is slower than the W\R\ path.", 15 ~{LLSB} (in) "Enable for 8-bit input latch of D0-D7 data inputs. NOTE: This logic path is slower than the W\R\ path.", 16 DCOM (power) "Digital common.", 17 D0 (LSB) (in) "Data Bit 1, LSB.", 18 D1 (in) "Data Bit 1.", 19 D2 (in) "Data Bit 2.", 20 D3 (in) "Data Bit 3.", 21 D4 (in) "Data Bit 4.", 22 D5 (in) "Data Bit 5.", 23 D6 (in) "Data Bit 6.", 24 D7 (in) "Data Bit 7.", 25 D8 (in) "Data Bit 8.", 26 D9 (in) "Data Bit 9.", 27 D10 (in) "Data Bit 10.", 28 D11 (MSB) (in) "Data Bit 11, MSB, positive true."

## DAC813AU/1K
designator U?
Microprocessor-Compatible 12-Bit D/A Converter, -40 to 85 degC, 28-pin SOIC (DW28), Green (RoHS & no Sb/Br); Manufacturer: Texas Instruments; PartNumber: DAC813AU/1K; DAC Channels: 1; DNL(Max)(+/-LSB): 0.75; INL(Max)(+/-LSB): 0.5; Interface: Parallel; Power Consumption(Typ)(mW): 270; Resolution(Bits): 12; Settling Time(us): 4; SubFamily: Precision DAC (=<10MSPS); DatasheetVersion: SBAS004; PackageVersion: 4040000-6/G, 01/2011; PackageReference: DW28; PackageDescription: 28-Pin Plastic Small Outline, Body 17.90 x 7.50 mm, Pitch 1.27 mm; Supplier 1: Digi-Key; Supplier Part Number 1: DAC813AU/1K-ND; Supplier 2: Mouser; Supplier Part Number 2: 595-DAC813AU/1K; Eco-Plan: Green (RoHS & no Sb/Br); Mounting Technology: Surface Mount; Code_JEDEC: MS-013; ComponentLink1Description: Manufacturer URL; ComponentLink1URL: http://www.ti.com/; ComponentLink2Description: Datasheet; ComponentLink2URL: http://www.ti.com/general/docs/lit/getliterature.tsp?genericPartNumber=DAC813&fileType=pdf; ComponentLink3Description: Package Specification; ComponentLink3URL: http://www.ti.com/lit/ml/mpds175a/mpds175a.pdf
footprint TI-DW28_N (SOIC, 28-Leads, Body 17.9x7.5mm, Pitch 1.27mm, IPC Medium Density)
footprint TI-DW28_L (SOIC, 28-Leads, Body 17.9x7.5mm, Pitch 1.27mm, IPC High Density)
footprint TI-DW28_M (SOIC, 28-Leads, Body 17.9x7.5mm, Pitch 1.27mm, IPC Low Density)
pins: 1 VL+ (power) "Positive supply pin for logic circuits. Connect to +VCC.", 2 20V RANGE "Connect Pin 2 or Pin 3 to Pin 9 (VOUT) for a 20V FSR. Connect both to Pin 9 for a 10V FSR.", 3 20V RANGE "Connect Pin 2 or Pin 3 to Pin 9 (VOUT) for a 20V FSR. Connect both to Pin 9 for a 10V FSR.", 4 BPO "Bipolar offset. Connect to Pin 6 (VREF OUT) through 100 Ohm resistor or 200 Ohm potentiometer for bipolar operation.", 5 ACOM (power) "Analog common, +/-VCC supply return.", 6 VREF OUT (out) "+10V reference output referred to ACOM.", 7 VREF IN (in) "Connected to VREF OUT through a 1kOhm gain adjustment potentiometer or a 500 Ohm resistor.", 8 VCC+ (power) "Analog supply input, nominally +12V to +15V referred to ACOM.", 9 VOUT (out) "D/A converter voltage output.", 10 VCC- (power) "Analog supply input, nominally -12V or -15V referred to ACOM.", 11 ~{WR} (in) "Master enable for L\D\A\C\, L\L\S\B\, and L\M\S\B\. Must be low for data transfer to any latch.", 12 ~{LDAC} (in) "Load DAC. Must be low with W\R\ for data transfer to the D/A latch and simultaneous update of the D/A converter.", 13 ~{RESET} (in) "When low, resets the D/A latch such that a Bipolar Zero output is produced. This control overrides all other data input operations.", 14 ~{LMSB} (in) "Enable for 4-bit input latch of D8-D11 data inputs. NOTE: This logic path is slower than the W\R\ path.", 15 ~{LLSB} (in) "Enable for 8-bit input latch of D0-D7 data inputs. NOTE: This logic path is slower than the W\R\ path.", 16 DCOM (power) "Digital common.", 17 D0 (LSB) (in) "Data Bit 1, LSB.", 18 D1 (in) "Data Bit 1.", 19 D2 (in) "Data Bit 2.", 20 D3 (in) "Data Bit 3.", 21 D4 (in) "Data Bit 4.", 22 D5 (in) "Data Bit 5.", 23 D6 (in) "Data Bit 6.", 24 D7 (in) "Data Bit 7.", 25 D8 (in) "Data Bit 8.", 26 D9 (in) "Data Bit 9.", 27 D10 (in) "Data Bit 10.", 28 D11 (MSB) (in) "Data Bit 11, MSB, positive true."

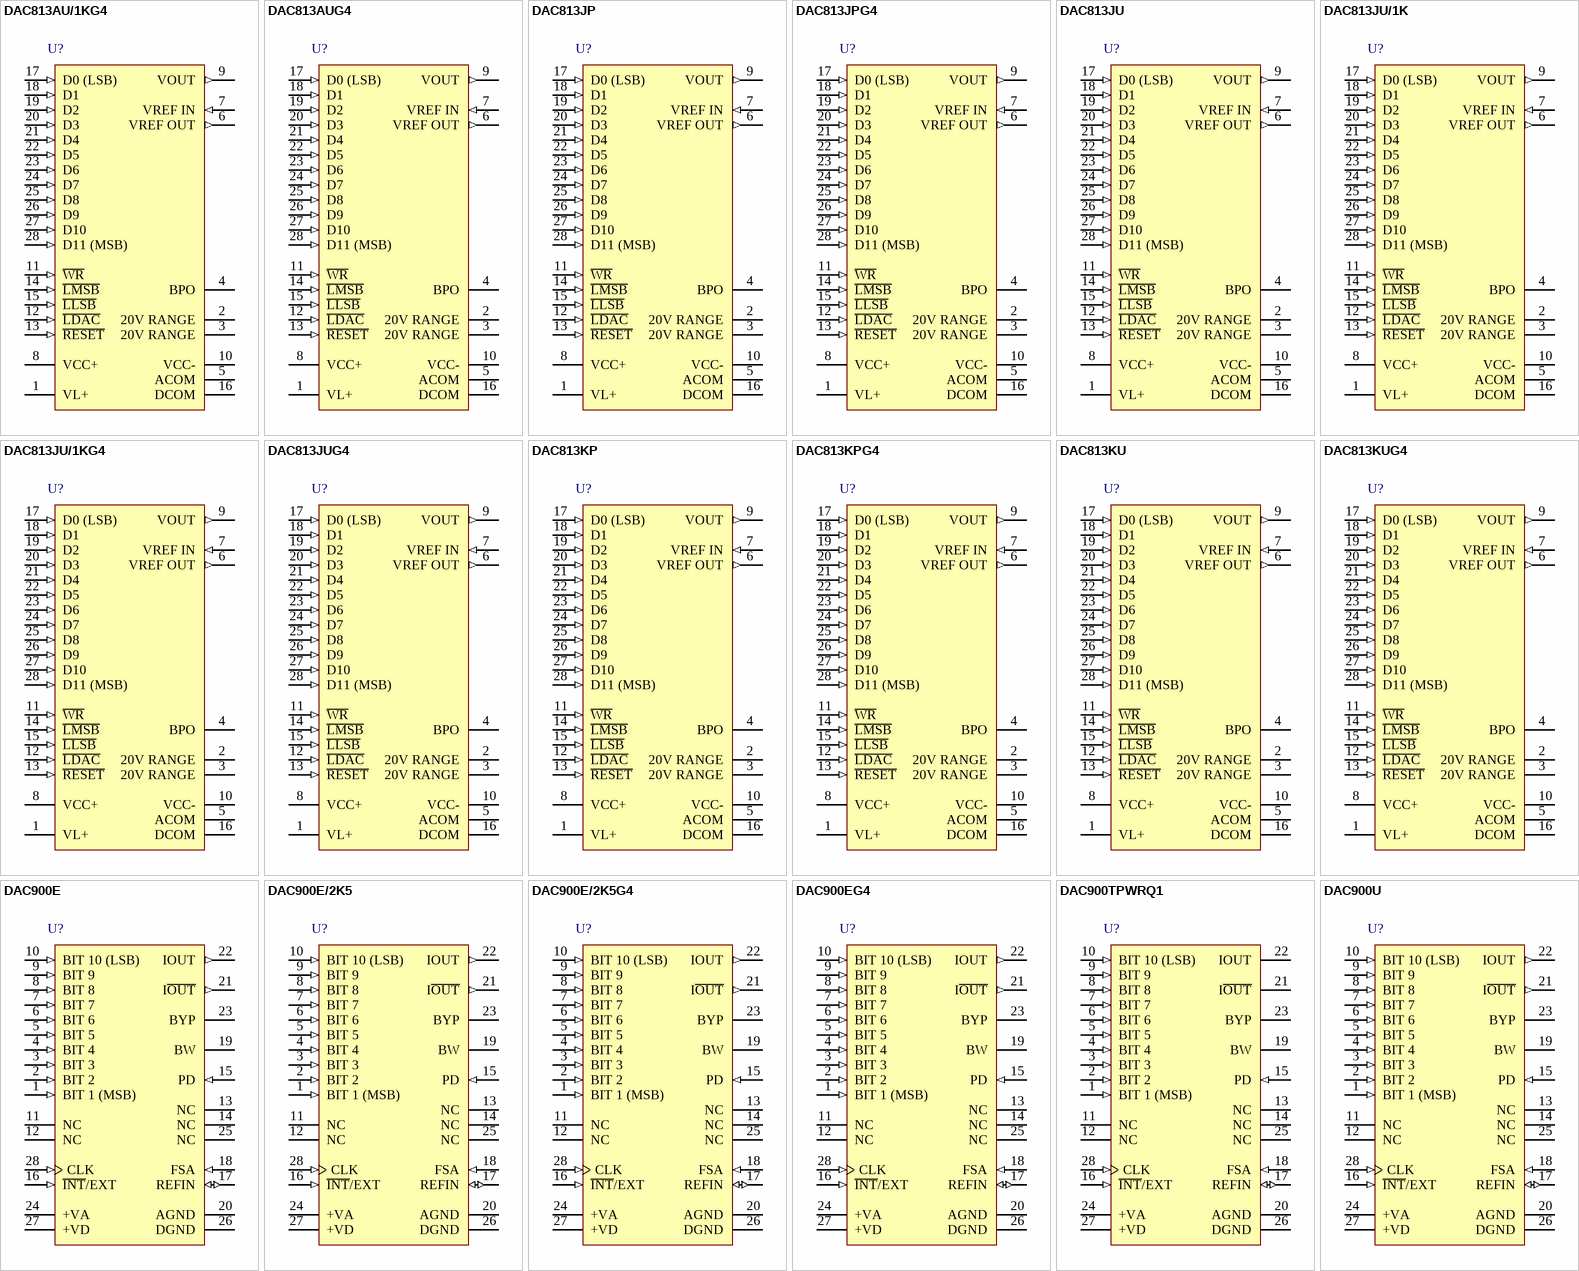
[diagram p6: symbols DAC813AU/1KG4 to DAC900U]

## DAC813AU/1KG4
designator U?
Microprocessor-Compatible 12-Bit D/A Converter, -40 to 85 degC, 28-pin SOIC (DW28), Green (RoHS & no Sb/Br); Manufacturer: Texas Instruments; PartNumber: DAC813AU/1KG4; DAC Channels: 1; DNL(Max)(+/-LSB): 0.75; INL(Max)(+/-LSB): 0.5; Interface: Parallel; Power Consumption(Typ)(mW): 270; Resolution(Bits): 12; Settling Time(us): 4; SubFamily: Precision DAC (=<10MSPS); DatasheetVersion: SBAS004; PackageVersion: 4040000-6/G, 01/2011; PackageReference: DW28; PackageDescription: 28-Pin Plastic Small Outline, Body 17.90 x 7.50 mm, Pitch 1.27 mm; Supplier 1: Digi-Key; Supplier Part Number 1: DAC813AU/1KG4-ND; Supplier 2: Mouser; Supplier Part Number 2: 595-DAC813AU/1KG4; Eco-Plan: Green (RoHS & no Sb/Br); Mounting Technology: Surface Mount; Code_JEDEC: MS-013; ComponentLink1Description: Manufacturer URL; ComponentLink1URL: http://www.ti.com/; ComponentLink2Description: Datasheet; ComponentLink2URL: http://www.ti.com/general/docs/lit/getliterature.tsp?genericPartNumber=DAC813&fileType=pdf; ComponentLink3Description: Package Specification; ComponentLink3URL: http://www.ti.com/lit/ml/mpds175a/mpds175a.pdf
footprint TI-DW28_N (SOIC, 28-Leads, Body 17.9x7.5mm, Pitch 1.27mm, IPC Medium Density)
footprint TI-DW28_L (SOIC, 28-Leads, Body 17.9x7.5mm, Pitch 1.27mm, IPC High Density)
footprint TI-DW28_M (SOIC, 28-Leads, Body 17.9x7.5mm, Pitch 1.27mm, IPC Low Density)
pins: 1 VL+ (power) "Positive supply pin for logic circuits. Connect to +VCC.", 2 20V RANGE "Connect Pin 2 or Pin 3 to Pin 9 (VOUT) for a 20V FSR. Connect both to Pin 9 for a 10V FSR.", 3 20V RANGE "Connect Pin 2 or Pin 3 to Pin 9 (VOUT) for a 20V FSR. Connect both to Pin 9 for a 10V FSR.", 4 BPO "Bipolar offset. Connect to Pin 6 (VREF OUT) through 100 Ohm resistor or 200 Ohm potentiometer for bipolar operation.", 5 ACOM (power) "Analog common, +/-VCC supply return.", 6 VREF OUT (out) "+10V reference output referred to ACOM.", 7 VREF IN (in) "Connected to VREF OUT through a 1kOhm gain adjustment potentiometer or a 500 Ohm resistor.", 8 VCC+ (power) "Analog supply input, nominally +12V to +15V referred to ACOM.", 9 VOUT (out) "D/A converter voltage output.", 10 VCC- (power) "Analog supply input, nominally -12V or -15V referred to ACOM.", 11 ~{WR} (in) "Master enable for L\D\A\C\, L\L\S\B\, and L\M\S\B\. Must be low for data transfer to any latch.", 12 ~{LDAC} (in) "Load DAC. Must be low with W\R\ for data transfer to the D/A latch and simultaneous update of the D/A converter.", 13 ~{RESET} (in) "When low, resets the D/A latch such that a Bipolar Zero output is produced. This control overrides all other data input operations.", 14 ~{LMSB} (in) "Enable for 4-bit input latch of D8-D11 data inputs. NOTE: This logic path is slower than the W\R\ path.", 15 ~{LLSB} (in) "Enable for 8-bit input latch of D0-D7 data inputs. NOTE: This logic path is slower than the W\R\ path.", 16 DCOM (power) "Digital common.", 17 D0 (LSB) (in) "Data Bit 1, LSB.", 18 D1 (in) "Data Bit 1.", 19 D2 (in) "Data Bit 2.", 20 D3 (in) "Data Bit 3.", 21 D4 (in) "Data Bit 4.", 22 D5 (in) "Data Bit 5.", 23 D6 (in) "Data Bit 6.", 24 D7 (in) "Data Bit 7.", 25 D8 (in) "Data Bit 8.", 26 D9 (in) "Data Bit 9.", 27 D10 (in) "Data Bit 10.", 28 D11 (MSB) (in) "Data Bit 11, MSB, positive true."